# Altium schematic symbol library SAMTEC-FTSH-105-01-X-D.SchLib: 1 symbol
Pins are listed as number, name and electrical type; pins without a type are passive.

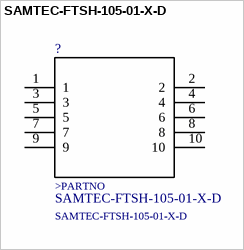
[diagram p0: symbol SAMTEC-FTSH-105-01-X-D]

## SAMTEC-FTSH-105-01-X-D
designator ?
Conn Unshrouded Header HDR 10 POS 1.27mm Solder ST Thru-Hole Automotive Tube; MP: FTSH-105-01-F-D-K; MF: Samtec Inc.; SnapEDA_Link: https://www.snapeda.com/parts/FTSH-105-01-F-D-K/Samtec%20Inc./view-part/?ref=snap; Digi-Key_Part_Number: SAM8909-ND; Digi-Key_Purchase_URL: https://www.digikey.com/product-detail/en/samtec-inc/FTSH-105-01-F-D-K/SAM8909-ND/1850757?utm_source=snapeda&utm_medium=aggregator&utm_campaign=symbol; Package: None; Value: *
footprint SAMTEC-FTSH-105-01-X-D
pins: 1, 2, 3, 4, 5, 6, 7, 8, 9, 10
text: >PARTNO